# Altium schematic symbol library HeartbeatLibrary.SchLib: 4 symbols
Pins are listed as number, name and electrical type; pins without a type are passive.

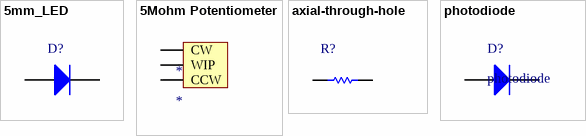
[diagram p0: symbols 5mm_LED to photodiode]

## 5mm_LED
designator D?
Manufacturer PN: TLHG6405
footprint 3mm_diode
pins: 1 A, 2 K

## 5Mohm Potentiometer
designator *
3296W-1-505LF; Manufacturer PN: 3296W-1-505LF
footprint 5k_pot (3296W-1-505LF)
pins: 1 CW, 2 WIP, 3 CCW

## axial-through-hole
designator R?
through-hole
footprint Axial_resistor (through-hole)
pins: 1, 2

## photodiode
designator D?
partnumber: *
footprint 3mm_diode
pins: 1 A, 2 K